# Altium footprint library TestPcbLib.PcbLib: 25 footprints (part 2 of 2)
Each footprint in its own frame and in the unit in brackets; x right, y up, seen from the top. Pads: shape width x height; smd on the part's side, far side on the other; paste and mask are expansions set on the pad; w line width, h text height; cw(c..) or ccw(c..) is an arc to the next point about the centre after c.
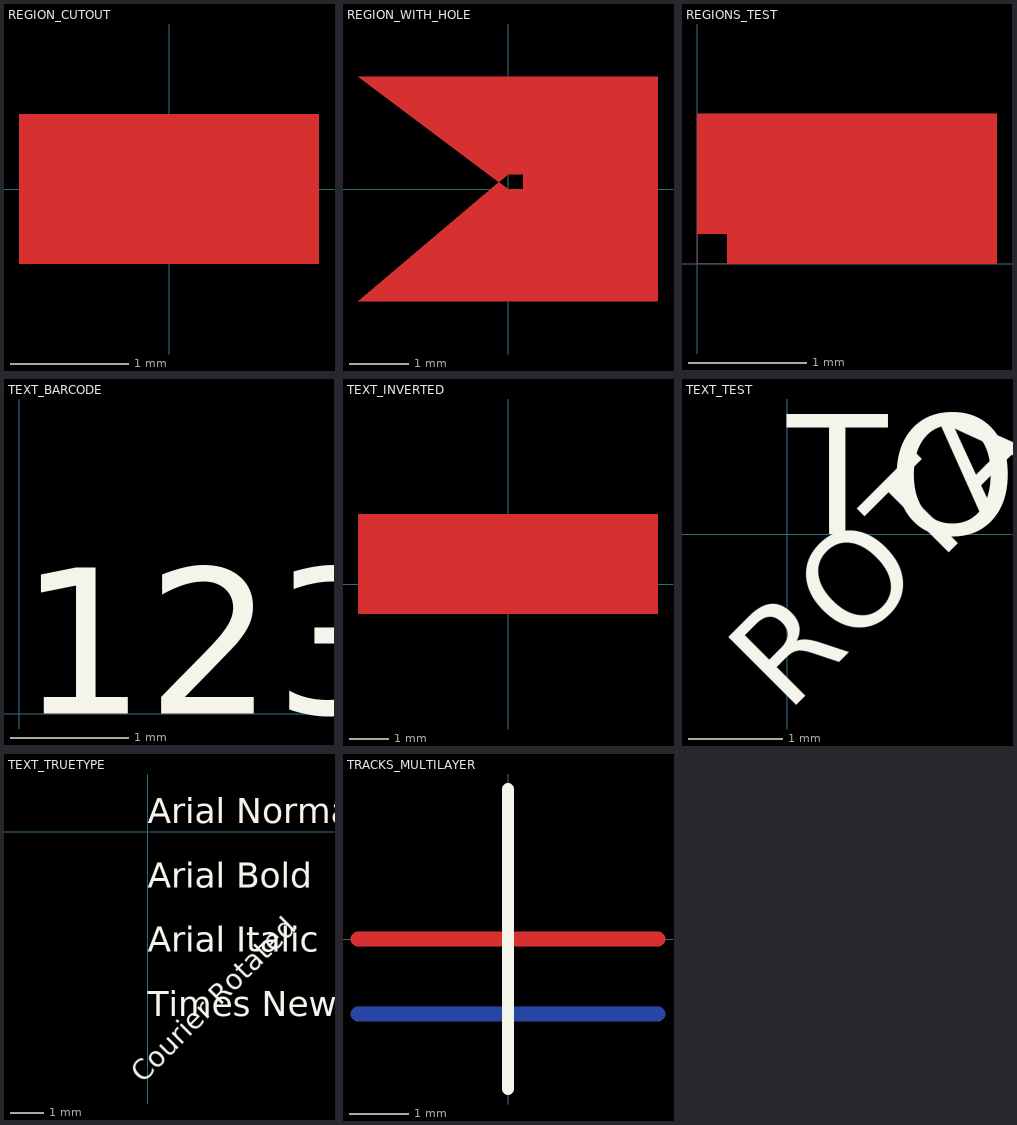
[diagram p1: the footprints below, top view; thin cyan lines are the x and y axes]

## POLYGON_EXTENDED [mil] "Polygon with extended pour properties"

## REGION_CUTOUT [mil] "Cutout region for polygon pours"
Top Layer:
  pour cut-out: -50,25 -50,-25 50,-25 50,25

## REGION_WITH_HOLE [mil] "Region with internal hole/cutout"
Top Layer:
  region: 0,0 10,0 10,10 0,10 -100,-75 100,-75 100,75 -100,75

## REGIONS_TEST [mil] "Region objects"
Top Layer:
  region: 0,0 10,0 10,10 0,10 0,0 100,0 100,50 0,50

## TEXT_BARCODE [mil] "Barcode text test"
Top Overlay:
  text "123456" at 0,0 h100

## TEXT_INVERTED [mil] "Inverted (knockout) text test"
Top Layer:
  rectangle: -150,-30 150,70
  text "INVERTED" at -100,0 h50

## TEXT_TEST [mil] "Text objects with various properties"
Top Overlay:
  text "ROTATED" at 0,-75 h40
  text "TOP" at 0,0 h50
Bottom Overlay:
  text "MIRROR" at 0,-150 h40

## TEXT_TRUETYPE [mil] "TrueType font text objects"
Top Overlay:
  text "Courier Rotated" at 0,-300 h40
  text "Times New Roman" at 0,-225 h50
  text "Arial Italic" at 0,-150 h50
  text "Arial Bold" at 0,-75 h50
  text "Arial Normal" at 0,0 h50

## TRACKS_MULTILAYER [mil] "Tracks on various layers"
Top Layer:
  lines w10: -100,0 100,0
Bottom Layer:
  lines w10: -100,-50 100,-50
Top Overlay:
  lines w8: 0,-100 0,100